# Altium footprint library Microchip SST Flash.PcbLib: 35 footprints (part 1 of 3)
Each footprint in its own frame and in the unit in brackets; x right, y up, seen from the top. Pads: shape width x height; smd on the part's side, far side on the other; paste and mask are expansions set on the pad; w line width, h text height; cw(c..) or ccw(c..) is an arc to the next point about the centre after c.
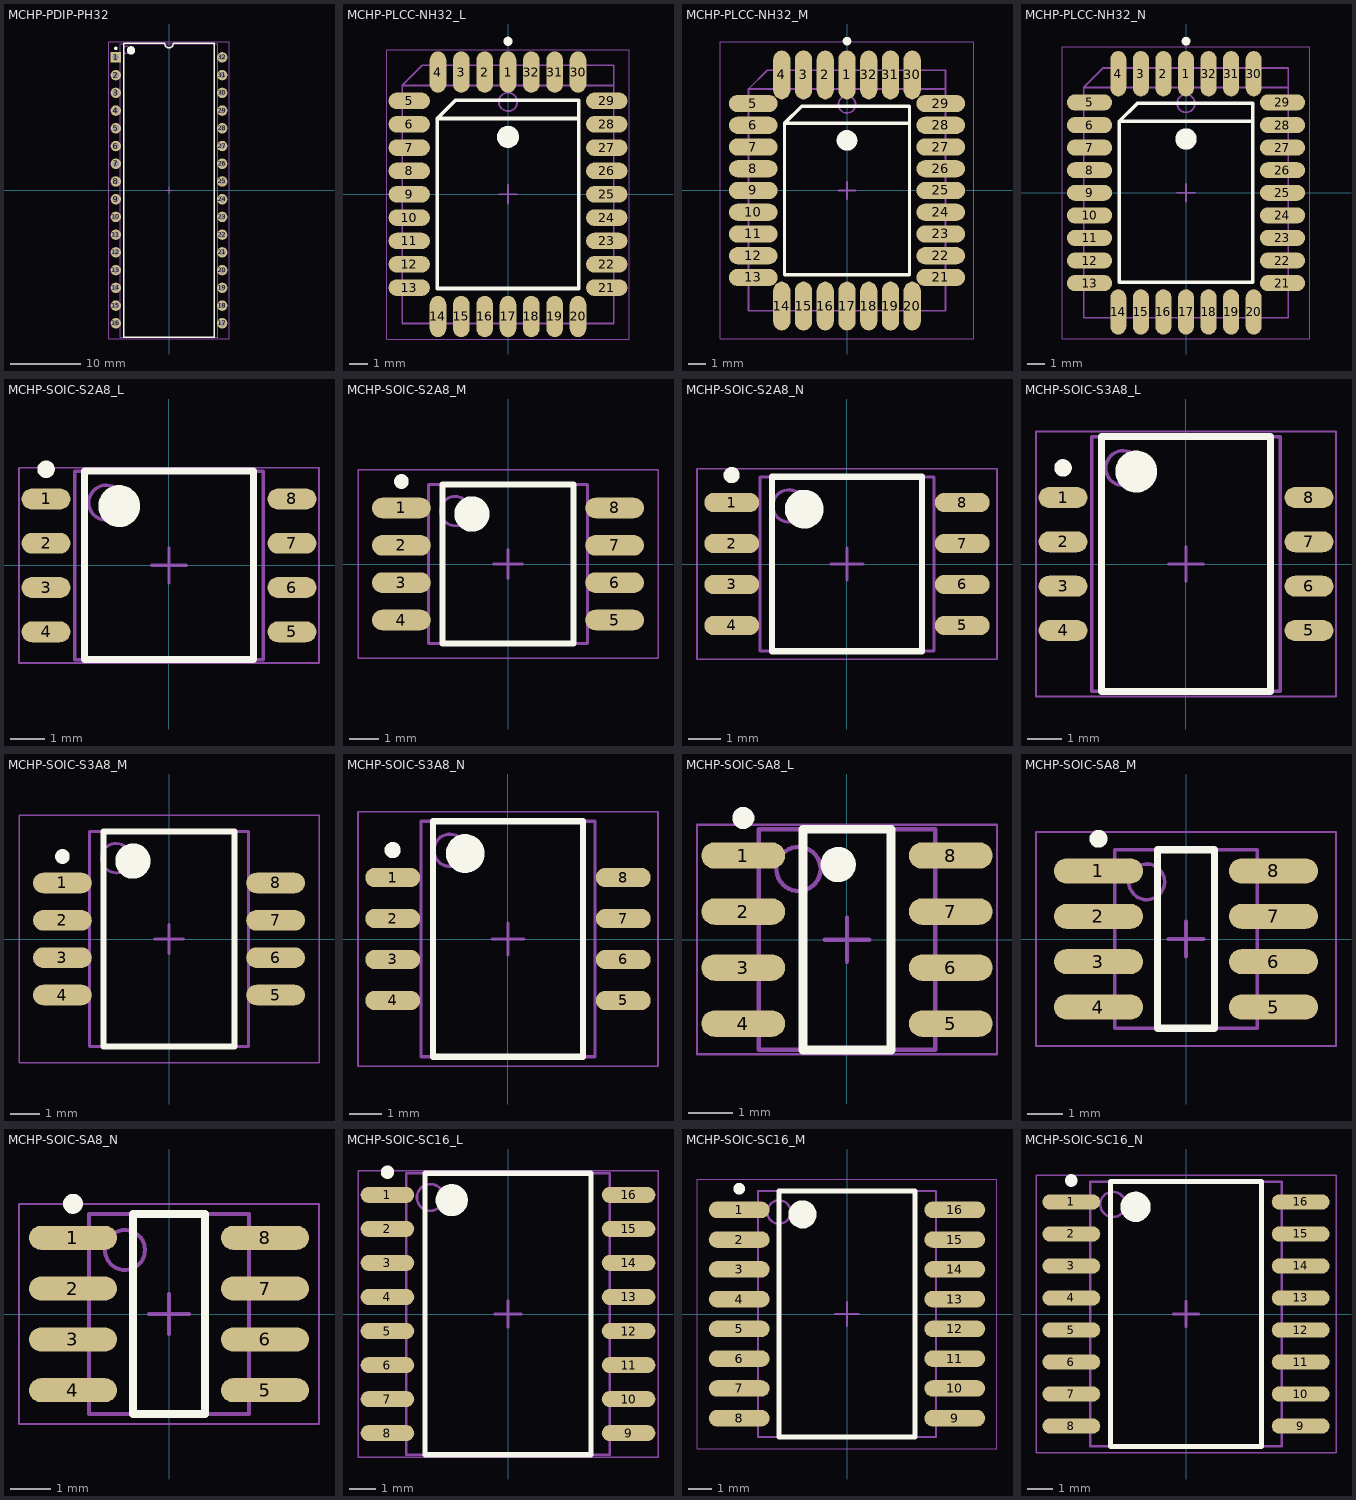
[diagram p0: the footprints below, top view; thin cyan lines are the x and y axes]

## MCHP-PDIP-PH32 [mm] "DIP, 32-Leads, Body 41.91x13.72mm, Pitch 2.54mm"
height 5.08
pads (32):
  rect 1.5x1.5 hole 0.9: 1(-7.62,19.05)
  round 1.5 hole 0.9: 2(-7.62,16.51) 3(-7.62,13.97) 4(-7.62,11.43) 5(-7.62,8.89) 6(-7.62,6.35) 7(-7.62,3.81) 8(-7.62,1.27) 9(-7.62,-1.27) 10(-7.62,-3.81) 11(-7.62,-6.35) 12(-7.62,-8.89) 13(-7.62,-11.43) 14(-7.62,-13.97) 15(-7.62,-16.51) 16(-7.62,-19.05) 17(7.62,-19.05) 18(7.62,-16.51) 19(7.62,-13.97) 20(7.62,-11.43) 21(7.62,-8.89) 22(7.62,-6.35) 23(7.62,-3.81) 24(7.62,-1.27) 25(7.62,1.27) 26(7.62,3.81) 27(7.62,6.35) 28(7.62,8.89) 29(7.62,11.43) 30(7.62,13.97) 31(7.62,16.51) 32(7.62,19.05)
Top Overlay:
  circle w0.6: c-5.45,20.05 r0.3
  circle w0.25: c-7.62,20.35 r0.125
  lines w0.2: -6.45,-21.05 6.45,-21.05 6.45,21.05 0.635,21.05 cw(c0,21.05) -0.635,21.05 -6.45,21.05 -6.45,-21.05
Mechanical 13:
  circle w0.1: c-6.075,20.125 r0.5
  lines w0.1: -6.975,-21.025 6.975,-21.025 6.975,21.025 -6.975,21.025 -6.975,-21.025
Mechanical 15:
  lines w0.05: -8.65,-21.3 8.65,-21.3 8.65,21.3 -8.65,21.3 -8.65,-21.3
  lines w0.1: -0.5,0 0.5,0 ; 0,-0.5 0,0.5
3D body: height 5.08, standoff 0.38, extent -6.975,-21.025 6.975,21.025
3D body: height 0, standoff -1.6, extent 7.485,18.69 7.755,19.41
3D body: height 2.87, standoff 2.6, extent 6.975,18.55 7.755,19.55
3D body: height 2.6, standoff 0, extent 7.485,18.55 7.755,19.55
3D body: height 0, standoff -1.6, extent 7.485,16.15 7.755,16.87
3D body: height 2.87, standoff 2.6, extent 6.975,16.01 7.755,17.01
3D body: height 2.6, standoff 0, extent 7.485,16.01 7.755,17.01
3D body: height 0, standoff -1.6, extent 7.485,13.61 7.755,14.33
3D body: height 2.87, standoff 2.6, extent 6.975,13.47 7.755,14.47
3D body: height 2.6, standoff 0, extent 7.485,13.47 7.755,14.47
3D body: height 0, standoff -1.6, extent 7.485,11.07 7.755,11.79
3D body: height 2.87, standoff 2.6, extent 6.975,10.93 7.755,11.93
3D body: height 2.6, standoff 0, extent 7.485,10.93 7.755,11.93
3D body: height 0, standoff -1.6, extent 7.485,8.53 7.755,9.25
3D body: height 2.87, standoff 2.6, extent 6.975,8.39 7.755,9.39
3D body: height 2.6, standoff 0, extent 7.485,8.39 7.755,9.39
3D body: height 0, standoff -1.6, extent 7.485,5.99 7.755,6.71
3D body: height 2.87, standoff 2.6, extent 6.975,5.85 7.755,6.85
3D body: height 2.6, standoff 0, extent 7.485,5.85 7.755,6.85
3D body: height 0, standoff -1.6, extent 7.485,3.45 7.755,4.17
3D body: height 2.87, standoff 2.6, extent 6.975,3.31 7.755,4.31
3D body: height 2.6, standoff 0, extent 7.485,3.31 7.755,4.31
3D body: height 0, standoff -1.6, extent 7.485,0.91 7.755,1.63
3D body: height 2.87, standoff 2.6, extent 6.975,0.77 7.755,1.77
3D body: height 2.6, standoff 0, extent 7.485,0.77 7.755,1.77
3D body: height 0, standoff -1.6, extent 7.485,-1.63 7.755,-0.91
3D body: height 2.87, standoff 2.6, extent 6.975,-1.77 7.755,-0.77
3D body: height 2.6, standoff 0, extent 7.485,-1.77 7.755,-0.77
3D body: height 0, standoff -1.6, extent 7.485,-4.17 7.755,-3.45
3D body: height 2.87, standoff 2.6, extent 6.975,-4.31 7.755,-3.31
3D body: height 2.6, standoff 0, extent 7.485,-4.31 7.755,-3.31
3D body: height 0, standoff -1.6, extent 7.485,-6.71 7.755,-5.99
3D body: height 2.87, standoff 2.6, extent 6.975,-6.85 7.755,-5.85
3D body: height 2.6, standoff 0, extent 7.485,-6.85 7.755,-5.85
3D body: height 0, standoff -1.6, extent 7.485,-9.25 7.755,-8.53
3D body: height 2.87, standoff 2.6, extent 6.975,-9.39 7.755,-8.39
3D body: height 2.6, standoff 0, extent 7.485,-9.39 7.755,-8.39
3D body: height 0, standoff -1.6, extent 7.485,-11.79 7.755,-11.07
3D body: height 2.87, standoff 2.6, extent 6.975,-11.93 7.755,-10.93
3D body: height 2.6, standoff 0, extent 7.485,-11.93 7.755,-10.93
3D body: height 0, standoff -1.6, extent 7.485,-14.33 7.755,-13.61
3D body: height 2.87, standoff 2.6, extent 6.975,-14.47 7.755,-13.47
3D body: height 2.6, standoff 0, extent 7.485,-14.47 7.755,-13.47
3D body: height 0, standoff -1.6, extent 7.485,-16.87 7.755,-16.15
3D body: height 2.87, standoff 2.6, extent 6.975,-17.01 7.755,-16.01
3D body: height 2.6, standoff 0, extent 7.485,-17.01 7.755,-16.01
3D body: height 0, standoff -1.6, extent 7.485,-19.41 7.755,-18.69
3D body: height 2.87, standoff 2.6, extent 6.975,-19.55 7.755,-18.55
3D body: height 2.6, standoff 0, extent 7.485,-19.55 7.755,-18.55
3D body: height 0, standoff -1.6, extent -7.755,-19.41 -7.485,-18.69
3D body: height 2.87, standoff 2.6, extent -7.755,-19.55 -6.975,-18.55
3D body: height 2.6, standoff 0, extent -7.755,-19.55 -7.485,-18.55
3D body: height 0, standoff -1.6, extent -7.755,-16.87 -7.485,-16.15
3D body: height 2.87, standoff 2.6, extent -7.755,-17.01 -6.975,-16.01
3D body: height 2.6, standoff 0, extent -7.755,-17.01 -7.485,-16.01
3D body: height 0, standoff -1.6, extent -7.755,-14.33 -7.485,-13.61
3D body: height 2.87, standoff 2.6, extent -7.755,-14.47 -6.975,-13.47
3D body: height 2.6, standoff 0, extent -7.755,-14.47 -7.485,-13.47
3D body: height 0, standoff -1.6, extent -7.755,-11.79 -7.485,-11.07
3D body: height 2.87, standoff 2.6, extent -7.755,-11.93 -6.975,-10.93
3D body: height 2.6, standoff 0, extent -7.755,-11.93 -7.485,-10.93
3D body: height 0, standoff -1.6, extent -7.755,-9.25 -7.485,-8.53
3D body: height 2.87, standoff 2.6, extent -7.755,-9.39 -6.975,-8.39
3D body: height 2.6, standoff 0, extent -7.755,-9.39 -7.485,-8.39
3D body: height 0, standoff -1.6, extent -7.755,-6.71 -7.485,-5.99
3D body: height 2.87, standoff 2.6, extent -7.755,-6.85 -6.975,-5.85
3D body: height 2.6, standoff 0, extent -7.755,-6.85 -7.485,-5.85
3D body: height 0, standoff -1.6, extent -7.755,-4.17 -7.485,-3.45
3D body: height 2.87, standoff 2.6, extent -7.755,-4.31 -6.975,-3.31
3D body: height 2.6, standoff 0, extent -7.755,-4.31 -7.485,-3.31
3D body: height 0, standoff -1.6, extent -7.755,-1.63 -7.485,-0.91
3D body: height 2.87, standoff 2.6, extent -7.755,-1.77 -6.975,-0.77
3D body: height 2.6, standoff 0, extent -7.755,-1.77 -7.485,-0.77
3D body: height 0, standoff -1.6, extent -7.755,0.91 -7.485,1.63
3D body: height 2.87, standoff 2.6, extent -7.755,0.77 -6.975,1.77
3D body: height 2.6, standoff 0, extent -7.755,0.77 -7.485,1.77
3D body: height 0, standoff -1.6, extent -7.755,3.45 -7.485,4.17
3D body: height 2.87, standoff 2.6, extent -7.755,3.31 -6.975,4.31
3D body: height 2.6, standoff 0, extent -7.755,3.31 -7.485,4.31
3D body: height 0, standoff -1.6, extent -7.755,5.99 -7.485,6.71
3D body: height 2.87, standoff 2.6, extent -7.755,5.85 -6.975,6.85
3D body: height 2.6, standoff 0, extent -7.755,5.85 -7.485,6.85
3D body: height 0, standoff -1.6, extent -7.755,8.53 -7.485,9.25
3D body: height 2.87, standoff 2.6, extent -7.755,8.39 -6.975,9.39
3D body: height 2.6, standoff 0, extent -7.755,8.39 -7.485,9.39
3D body: height 0, standoff -1.6, extent -7.755,11.07 -7.485,11.79
3D body: height 2.87, standoff 2.6, extent -7.755,10.93 -6.975,11.93
3D body: height 2.6, standoff 0, extent -7.755,10.93 -7.485,11.93
3D body: height 0, standoff -1.6, extent -7.755,13.61 -7.485,14.33
3D body: height 2.87, standoff 2.6, extent -7.755,13.47 -6.975,14.47
3D body: height 2.6, standoff 0, extent -7.755,13.47 -7.485,14.47
3D body: height 0, standoff -1.6, extent -7.755,16.15 -7.485,16.87
3D body: height 2.87, standoff 2.6, extent -7.755,16.01 -6.975,17.01
3D body: height 2.6, standoff 0, extent -7.755,16.01 -7.485,17.01
3D body: height 0, standoff -1.6, extent -7.755,18.69 -7.485,19.41
3D body: height 2.87, standoff 2.6, extent -7.755,18.55 -6.975,19.55
3D body: height 2.6, standoff 0, extent -7.755,18.55 -7.485,19.55

## MCHP-PLCC-NH32_L [mm] "PLCC, 32-Leads, Body 13.97x11.43mm, Pitch 1.27mm, IPC High Density"
height 3.56
pads (32):
  oval 0.9x2.25 smd: 1(0,6.65) 2(-1.27,6.65) 3(-2.54,6.65) 4(-3.81,6.65) 14(-3.81,-6.65) 15(-2.54,-6.65) 16(-1.27,-6.65) 17(0,-6.65) 18(1.27,-6.65) 19(2.54,-6.65) 20(3.81,-6.65) 30(3.81,6.65) 31(2.54,6.65) 32(1.27,6.65)
  oval 2.25x0.9 smd: 5(-5.375,5.08) 6(-5.375,3.81) 7(-5.375,2.54) 8(-5.375,1.27) 9(-5.375,0) 10(-5.375,-1.27) 11(-5.375,-2.54) 12(-5.375,-3.81) 13(-5.375,-5.08) 21(5.375,-5.08) 22(5.375,-3.81) 23(5.375,-2.54) 24(5.375,-1.27) 25(5.375,0) 26(5.375,1.27) 27(5.375,2.54) 28(5.375,3.81) 29(5.375,5.08)
Top Overlay:
  circle w0.25: c0,8.325 r0.125
  circle w0.6: c0,3.125 r0.3
  lines w0.2: 3.85,4.125 -3.85,4.125 ; -3.85,4.125 -2.85,5.125 3.85,5.125 3.85,-5.125 -3.85,-5.125 -3.85,4.125
Mechanical 13:
  circle w0.1: c0,5.025 r0.5
  lines w0.1: 5.755,5.925 -5.755,5.925 ; -5.755,5.925 -5.755,-7.025 5.755,-7.025 5.755,7.025 -4.655,7.025 -5.755,5.925
Mechanical 15:
  lines w0.05: -6.6,-7.875 -6.6,7.875 6.6,7.875 6.6,-7.875 -6.6,-7.875
  lines w0.1: -0.5,0 0.5,0 ; 0,-0.5 0,0.5
3D body: height 3.56, standoff 0.38, extent -5.755,-7.025 5.755,7.025

## MCHP-PLCC-NH32_M [mm] "PLCC, 32-Leads, Body 13.97x11.43mm, Pitch 1.27mm, IPC Low Density"
height 3.56
pads (32):
  oval 1x2.85 smd: 1(0,6.75) 2(-1.27,6.75) 3(-2.54,6.75) 4(-3.81,6.75) 14(-3.81,-6.75) 15(-2.54,-6.75) 16(-1.27,-6.75) 17(0,-6.75) 18(1.27,-6.75) 19(2.54,-6.75) 20(3.81,-6.75) 30(3.81,6.75) 31(2.54,6.75) 32(1.27,6.75)
  oval 2.85x1 smd: 5(-5.475,5.08) 6(-5.475,3.81) 7(-5.475,2.54) 8(-5.475,1.27) 9(-5.475,0) 10(-5.475,-1.27) 11(-5.475,-2.54) 12(-5.475,-3.81) 13(-5.475,-5.08) 21(5.475,-5.08) 22(5.475,-3.81) 23(5.475,-2.54) 24(5.475,-1.27) 25(5.475,0) 26(5.475,1.27) 27(5.475,2.54) 28(5.475,3.81) 29(5.475,5.08)
Top Overlay:
  circle w0.6: c0,2.925 r0.3
  circle w0.25: c0,8.725 r0.125
  lines w0.2: 3.65,3.925 -3.65,3.925 ; -3.65,3.925 -3.65,-4.925 3.65,-4.925 3.65,4.925 -2.65,4.925 -3.65,3.925
Mechanical 13:
  circle w0.1: c0,5.025 r0.5
  lines w0.1: 5.755,5.925 -5.755,5.925 ; -5.755,5.925 -4.655,7.025 5.755,7.025 5.755,-7.025 -5.755,-7.025 -5.755,5.925
Mechanical 15:
  lines w0.05: -7.4,-8.675 7.4,-8.675 7.4,8.675 -7.4,8.675 -7.4,-8.675
  lines w0.1: -0.5,0 0.5,0 ; 0,-0.5 0,0.5
3D body: height 3.56, standoff 0.38, extent -5.755,-7.025 5.755,7.025

## MCHP-PLCC-NH32_N [mm] "PLCC, 32-Leads, Body 13.97x11.43mm, Pitch 1.27mm, IPC Medium Density"
height 3.56
pads (32):
  oval 0.9x2.55 smd: 1(0,6.7) 2(-1.27,6.7) 3(-2.54,6.7) 4(-3.81,6.7) 14(-3.81,-6.7) 15(-2.54,-6.7) 16(-1.27,-6.7) 17(0,-6.7) 18(1.27,-6.7) 19(2.54,-6.7) 20(3.81,-6.7) 30(3.81,6.7) 31(2.54,6.7) 32(1.27,6.7)
  oval 2.55x0.9 smd: 5(-5.425,5.08) 6(-5.425,3.81) 7(-5.425,2.54) 8(-5.425,1.27) 9(-5.425,0) 10(-5.425,-1.27) 11(-5.425,-2.54) 12(-5.425,-3.81) 13(-5.425,-5.08) 21(5.425,-5.08) 22(5.425,-3.81) 23(5.425,-2.54) 24(5.425,-1.27) 25(5.425,0) 26(5.425,1.27) 27(5.425,2.54) 28(5.425,3.81) 29(5.425,5.08)
Top Overlay:
  circle w0.6: c0,3.025 r0.3
  circle w0.25: c0,8.525 r0.125
  lines w0.2: 3.75,4.025 -3.75,4.025 ; -3.75,4.025 -3.75,-5.025 3.75,-5.025 3.75,5.025 -2.75,5.025 -3.75,4.025
Mechanical 13:
  circle w0.1: c0,5.025 r0.5
  lines w0.1: 5.755,5.925 -5.755,5.925 ; -5.755,5.925 -4.655,7.025 5.755,7.025 5.755,-7.025 -5.755,-7.025 -5.755,5.925
Mechanical 15:
  lines w0.05: -6.95,-8.225 6.95,-8.225 6.95,8.225 -6.95,8.225 -6.95,-8.225
  lines w0.1: -0.5,0 0.5,0 ; 0,-0.5 0,0.5
3D body: height 3.56, standoff 0.38, extent -5.755,-7.025 5.755,7.025

## MCHP-SOIC-S2A8_L [mm] "SOIC, 8-Leads, Body 5.275x5.275mm, Pitch 1.27mm, IPC High Density"
height 2.16
pads (8):
  oval 1.4x0.6 smd: 1(-3.525,1.905) 2(-3.525,0.635) 3(-3.525,-0.635) 4(-3.525,-1.905) 5(3.525,-1.905) 6(3.525,-0.635) 7(3.525,0.635) 8(3.525,1.905)
Top Overlay:
  circle w0.6: c-1.425,1.7 r0.3
  circle w0.25: c-3.525,2.755 r0.125
  lines w0.2: -2.425,-2.7 2.425,-2.7 2.425,2.7 -2.425,2.7 -2.425,-2.7
Mechanical 13:
  circle w0.1: c-1.8,1.8 r0.5
  lines w0.1: -2.7,-2.7 2.7,-2.7 2.7,2.7 -2.7,2.7 -2.7,-2.7
Mechanical 15:
  lines w0.05: -4.3,-2.8 4.3,-2.8 4.3,2.8 -4.3,2.8 -4.3,-2.8
  lines w0.1: -0.5,0 0.5,0 ; 0,-0.5 0,0.5
3D body "SOIC8_5.3x5.3mm_Pitch1.27mm.step": height 1.75, standoff 0, extent -3.81,-2.565 3.81,2.565

## MCHP-SOIC-S2A8_M [mm] "SOIC, 8-Leads, Body 5.275x5.275mm, Pitch 1.27mm, IPC Low Density"
height 2.16
pads (8):
  oval 2x0.7 smd: 1(-3.625,1.905) 2(-3.625,0.635) 3(-3.625,-0.635) 4(-3.625,-1.905) 5(3.625,-1.905) 6(3.625,-0.635) 7(3.625,0.635) 8(3.625,1.905)
Top Overlay:
  circle w0.6: c-1.225,1.7 r0.3
  circle w0.25: c-3.625,2.805 r0.125
  lines w0.2: -2.225,-2.7 2.225,-2.7 2.225,2.7 -2.225,2.7 -2.225,-2.7
Mechanical 13:
  circle w0.1: c-1.8,1.8 r0.5
  lines w0.1: -2.7,-2.7 2.7,-2.7 2.7,2.7 -2.7,2.7 -2.7,-2.7
Mechanical 15:
  lines w0.05: -5.1,-3.2 5.1,-3.2 5.1,3.2 -5.1,3.2 -5.1,-3.2
  lines w0.1: -0.5,0 0.5,0 ; 0,-0.5 0,0.5
3D body "SOIC8_5.3x5.3mm_Pitch1.27mm.step": height 1.75, standoff 0, extent -3.81,-2.565 3.81,2.565

## MCHP-SOIC-S2A8_N [mm] "SOIC, 8-Leads, Body 5.275x5.275mm, Pitch 1.27mm, IPC Medium Density"
height 2.16
pads (8):
  oval 1.7x0.6 smd: 1(-3.575,1.905) 2(-3.575,0.635) 3(-3.575,-0.635) 4(-3.575,-1.905) 5(3.575,-1.905) 6(3.575,-0.635) 7(3.575,0.635) 8(3.575,1.905)
Top Overlay:
  circle w0.6: c-1.325,1.7 r0.3
  circle w0.25: c-3.575,2.755 r0.125
  lines w0.2: -2.325,-2.7 2.325,-2.7 2.325,2.7 -2.325,2.7 -2.325,-2.7
Mechanical 13:
  circle w0.1: c-1.8,1.8 r0.5
  lines w0.1: -2.7,-2.7 2.7,-2.7 2.7,2.7 -2.7,2.7 -2.7,-2.7
Mechanical 15:
  lines w0.05: -4.65,-2.95 4.65,-2.95 4.65,2.95 -4.65,2.95 -4.65,-2.95
  lines w0.1: -0.5,0 0.5,0 ; 0,-0.5 0,0.5
3D body "SOIC8_5.3x5.3mm_Pitch1.27mm.step": height 1.75, standoff 0, extent -3.81,-2.565 3.81,2.565

## MCHP-SOIC-S3A8_L [mm] "SOIC, 8-Leads, Body 7.21x5.28mm, Pitch 1.27mm, IPC High Density"
height 2.16
pads (8):
  oval 1.4x0.6 smd: 1(-3.525,1.905) 2(-3.525,0.635) 3(-3.525,-0.635) 4(-3.525,-1.905) 5(3.525,-1.905) 6(3.525,-0.635) 7(3.525,0.635) 8(3.525,1.905)
Top Overlay:
  circle w0.25: c-3.525,2.755 r0.125
  circle w0.6: c-1.425,2.65 r0.3
  lines w0.2: -2.425,-3.65 -2.425,3.65 2.425,3.65 2.425,-3.65 -2.425,-3.65
Mechanical 13:
  circle w0.1: c-1.8,2.75 r0.5
  lines w0.1: -2.7,-3.65 -2.7,3.65 2.7,3.65 2.7,-3.65 -2.7,-3.65
Mechanical 15:
  lines w0.05: -4.3,-3.8 -4.3,3.8 4.3,3.8 4.3,-3.8 -4.3,-3.8
  lines w0.1: -0.5,0 0.5,0 ; 0,-0.5 0,0.5
3D body: height 2.16, standoff 0.05, extent -2.7,-3.65 2.7,3.65

## MCHP-SOIC-S3A8_M [mm] "SOIC, 8-Leads, Body 7.21x5.28mm, Pitch 1.27mm, IPC Low Density"
height 2.16
pads (8):
  oval 2x0.7 smd: 1(-3.625,1.905) 2(-3.625,0.635) 3(-3.625,-0.635) 4(-3.625,-1.905) 5(3.625,-1.905) 6(3.625,-0.635) 7(3.625,0.635) 8(3.625,1.905)
Top Overlay:
  circle w0.6: c-1.225,2.65 r0.3
  circle w0.25: c-3.625,2.805 r0.125
  lines w0.2: -2.225,-3.65 2.225,-3.65 2.225,3.65 -2.225,3.65 -2.225,-3.65
Mechanical 13:
  circle w0.1: c-1.8,2.75 r0.5
  lines w0.1: -2.7,-3.65 2.7,-3.65 2.7,3.65 -2.7,3.65 -2.7,-3.65
Mechanical 15:
  lines w0.05: -5.1,-4.2 5.1,-4.2 5.1,4.2 -5.1,4.2 -5.1,-4.2
  lines w0.1: -0.5,0 0.5,0 ; 0,-0.5 0,0.5
3D body: height 2.16, standoff 0.05, extent -2.7,-3.65 2.7,3.65

## MCHP-SOIC-S3A8_N [mm] "SOIC, 8-Leads, Body 7.21x5.28mm, Pitch 1.27mm, IPC Medium Density"
height 2.16
pads (8):
  oval 1.7x0.6 smd: 1(-3.575,1.905) 2(-3.575,0.635) 3(-3.575,-0.635) 4(-3.575,-1.905) 5(3.575,-1.905) 6(3.575,-0.635) 7(3.575,0.635) 8(3.575,1.905)
Top Overlay:
  circle w0.25: c-3.575,2.755 r0.125
  circle w0.6: c-1.325,2.65 r0.3
  lines w0.2: -2.325,-3.65 -2.325,3.65 2.325,3.65 2.325,-3.65 -2.325,-3.65
Mechanical 13:
  circle w0.1: c-1.8,2.75 r0.5
  lines w0.1: -2.7,-3.65 -2.7,3.65 2.7,3.65 2.7,-3.65 -2.7,-3.65
Mechanical 15:
  lines w0.05: -4.65,-3.95 -4.65,3.95 4.65,3.95 4.65,-3.95 -4.65,-3.95
  lines w0.1: -0.5,0 0.5,0 ; 0,-0.5 0,0.5
3D body: height 2.16, standoff 0.05, extent -2.7,-3.65 2.7,3.65

## MCHP-SOIC-SA8_L [mm] "SOIC, 8-Leads, Body 4.9x3.9mm, Pitch 1.27mm, IPC High Density"
height 1.75
pads (8):
  oval 1.9x0.6 smd: 1(-2.35,1.905) 2(-2.35,0.635) 3(-2.35,-0.635) 4(-2.35,-1.905) 5(2.35,-1.905) 6(2.35,-0.635) 7(2.35,0.635) 8(2.35,1.905)
Top Overlay:
  circle w0.25: c-2.35,2.755 r0.125
  circle w0.4: c-0.2,1.7 r0.2
  lines w0.2: -1,-2.5 -1,2.5 1,2.5 1,-2.5 -1,-2.5
Mechanical 13:
  circle w0.1: c-1.1,1.6 r0.5
  lines w0.1: -2,-2.5 -2,2.5 2,2.5 2,-2.5 -2,-2.5
Mechanical 15:
  lines w0.05: -3.4,-2.6 -3.4,2.6 3.4,2.6 3.4,-2.6 -3.4,-2.6
  lines w0.1: -0.5,0 0.5,0 ; 0,-0.5 0,0.5
3D body "SOIC8-1EP_3.9x4.9mm_Pitch1.27mm.step": height 1.75, standoff 0, extent -3,-2.45 3,2.45

## MCHP-SOIC-SA8_M [mm] "SOIC, 8-Leads, Body 4.9x3.9mm, Pitch 1.27mm, IPC Low Density"
height 1.75
pads (8):
  oval 2.5x0.7 smd: 1(-2.45,1.905) 2(-2.45,0.635) 3(-2.45,-0.635) 4(-2.45,-1.905) 5(2.45,-1.905) 6(2.45,-0.635) 7(2.45,0.635) 8(2.45,1.905)
Top Overlay:
  circle w0.25: c-2.45,2.805 r0.125
  lines w0.2: -0.8,-2.5 -0.8,2.5 0.8,2.5 0.8,-2.5 -0.8,-2.5
Mechanical 13:
  circle w0.1: c-1.1,1.6 r0.5
  lines w0.1: -2,-2.5 -2,2.5 2,2.5 2,-2.5 -2,-2.5
Mechanical 15:
  lines w0.05: -4.2,-3 -4.2,3 4.2,3 4.2,-3 -4.2,-3
  lines w0.1: -0.5,0 0.5,0 ; 0,-0.5 0,0.5
3D body "SOIC8-1EP_3.9x4.9mm_Pitch1.27mm.step": height 1.75, standoff 0, extent -3,-2.45 3,2.45

## MCHP-SOIC-SA8_N [mm] "SOIC, 8-Leads, Body 4.9x3.9mm, Pitch 1.27mm, IPC Medium Density"
height 1.75
pads (8):
  oval 2.2x0.6 smd: 1(-2.4,1.905) 2(-2.4,0.635) 3(-2.4,-0.635) 4(-2.4,-1.905) 5(2.4,-1.905) 6(2.4,-0.635) 7(2.4,0.635) 8(2.4,1.905)
Top Overlay:
  circle w0.25: c-2.4,2.755 r0.125
  lines w0.2: -0.9,-2.5 0.9,-2.5 0.9,2.5 -0.9,2.5 -0.9,-2.5
Mechanical 13:
  circle w0.1: c-1.1,1.6 r0.5
  lines w0.1: -2,-2.5 2,-2.5 2,2.5 -2,2.5 -2,-2.5
Mechanical 15:
  lines w0.05: -3.75,-2.75 3.75,-2.75 3.75,2.75 -3.75,2.75 -3.75,-2.75
  lines w0.1: -0.5,0 0.5,0 ; 0,-0.5 0,0.5
3D body "SOIC8-1EP_3.9x4.9mm_Pitch1.27mm.step": height 1.75, standoff 0, extent -3,-2.45 3,2.45

## MCHP-SOIC-SC16_L [mm] "SOIC, 16-Leads, Body 10.29x7.5mm, Pitch 1.27mm, IPC High Density"
height 2.65
pads (16):
  oval 2x0.6 smd: 1(-4.5,4.445) 2(-4.5,3.175) 3(-4.5,1.905) 4(-4.5,0.635) 5(-4.5,-0.635) 6(-4.5,-1.905) 7(-4.5,-3.175) 8(-4.5,-4.445) 9(4.5,-4.445) 10(4.5,-3.175) 11(4.5,-1.905) 12(4.5,-0.635) 13(4.5,0.635) 14(4.5,1.905) 15(4.5,3.175) 16(4.5,4.445)
Top Overlay:
  circle w0.6: c-2.1,4.25 r0.3
  circle w0.25: c-4.5,5.295 r0.125
  lines w0.2: -3.1,-5.25 3.1,-5.25 3.1,5.25 -3.1,5.25 -3.1,-5.25
Mechanical 13:
  circle w0.1: c-2.9,4.35 r0.5
  lines w0.1: -3.8,-5.25 3.8,-5.25 3.8,5.25 -3.8,5.25 -3.8,-5.25
Mechanical 15:
  lines w0.05: -5.6,-5.35 5.6,-5.35 5.6,5.35 -5.6,5.35 -5.6,-5.35
  lines w0.1: -0.5,0 0.5,0 ; 0,-0.5 0,0.5
3D body: height 2.65, standoff 0.1, extent -3.8,-5.25 3.8,5.25

## MCHP-SOIC-SC16_M [mm] "SOIC, 16-Leads, Body 10.29x7.5mm, Pitch 1.27mm, IPC Low Density"
height 2.65
pads (16):
  oval 2.6x0.7 smd: 1(-4.6,4.445) 2(-4.6,3.175) 3(-4.6,1.905) 4(-4.6,0.635) 5(-4.6,-0.635) 6(-4.6,-1.905) 7(-4.6,-3.175) 8(-4.6,-4.445) 9(4.6,-4.445) 10(4.6,-3.175) 11(4.6,-1.905) 12(4.6,-0.635) 13(4.6,0.635) 14(4.6,1.905) 15(4.6,3.175) 16(4.6,4.445)
Top Overlay:
  circle w0.25: c-4.6,5.345 r0.125
  circle w0.6: c-1.9,4.25 r0.3
  lines w0.2: -2.9,-5.25 -2.9,5.25 2.9,5.25 2.9,-5.25 -2.9,-5.25
Mechanical 13:
  circle w0.1: c-2.9,4.35 r0.5
  lines w0.1: -3.8,-5.25 -3.8,5.25 3.8,5.25 3.8,-5.25 -3.8,-5.25
Mechanical 15:
  lines w0.05: -6.4,-5.75 -6.4,5.75 6.4,5.75 6.4,-5.75 -6.4,-5.75
  lines w0.1: -0.5,0 0.5,0 ; 0,-0.5 0,0.5
3D body: height 2.65, standoff 0.1, extent -3.8,-5.25 3.8,5.25

## MCHP-SOIC-SC16_N [mm] "SOIC, 16-Leads, Body 10.29x7.5mm, Pitch 1.27mm, IPC Medium Density"
height 2.65
pads (16):
  oval 2.3x0.6 smd: 1(-4.55,4.445) 2(-4.55,3.175) 3(-4.55,1.905) 4(-4.55,0.635) 5(-4.55,-0.635) 6(-4.55,-1.905) 7(-4.55,-3.175) 8(-4.55,-4.445) 9(4.55,-4.445) 10(4.55,-3.175) 11(4.55,-1.905) 12(4.55,-0.635) 13(4.55,0.635) 14(4.55,1.905) 15(4.55,3.175) 16(4.55,4.445)
Top Overlay:
  circle w0.25: c-4.55,5.295 r0.125
  circle w0.6: c-2,4.25 r0.3
  lines w0.2: -3,-5.25 -3,5.25 3,5.25 3,-5.25 -3,-5.25
Mechanical 13:
  circle w0.1: c-2.9,4.35 r0.5
  lines w0.1: -3.8,-5.25 -3.8,5.25 3.8,5.25 3.8,-5.25 -3.8,-5.25
Mechanical 15:
  lines w0.05: -5.95,-5.5 -5.95,5.5 5.95,5.5 5.95,-5.5 -5.95,-5.5
  lines w0.1: -0.5,0 0.5,0 ; 0,-0.5 0,0.5
3D body: height 2.65, standoff 0.1, extent -3.8,-5.25 3.8,5.25